# EAGLE library part NHD-C12832A1Z (library display)
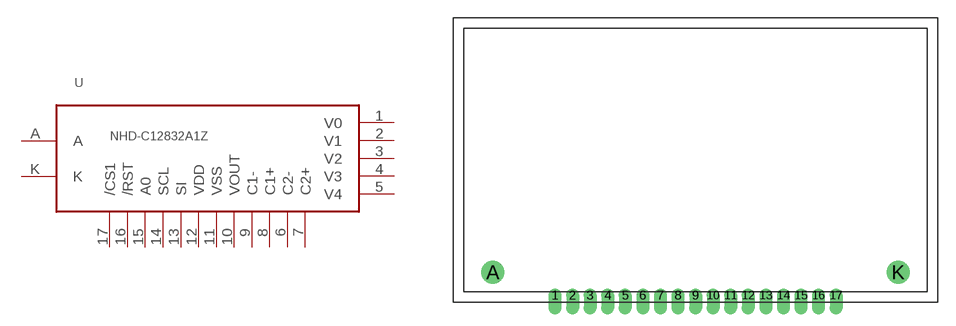
[diagram p0: symbol with the pads of NHD-C12832A1Z; footprint NHD-C12832A1Z]

Designator prefix -

## NHD-C12832A1Z  [NHD-C12832A1Z]
1  V0
2  V1
3  V2
4  V3
5  V4
6  C2-
7  C2+
8  C1+
9  C1-
10  VOUT
11  VSS
12  VDD
13  SI
14  SCL
15  A0
16  /RST
17  /CS1
A  A
K  K

## Footprint NHD-C12832A1Z (pad centres in mm)
drill 0.6 offset: 1 -12,-11.55; 2 -10.5,-11.55; 3 -9,-11.55; 4 -7.5,-11.55; 5 -6,-11.55; 6 -4.5,-11.55; 7 -3,-11.55; 8 -1.5,-11.55; 9 0,-11.55; 10 1.5,-11.55; 11 3,-11.55; 12 4.5,-11.55; 13 6,-11.55; 14 7.5,-11.55; 15 9,-11.55; 16 10.5,-11.55; 17 12,-11.55
drill 1.3: A -17.3,-9.6; K 17.3,-9.6